# Altium footprint library 9W YT21392CGAS7 FL 9W81V95mA.PcbLib: 14 footprints
Each footprint in its own frame and in the unit in brackets; x right, y up, seen from the top. Pads: shape width x height; smd on the part's side, far side on the other; paste and mask are expansions set on the pad; w line width, h text height; cw(c..) or ccw(c..) is an arc to the next point about the centre after c.
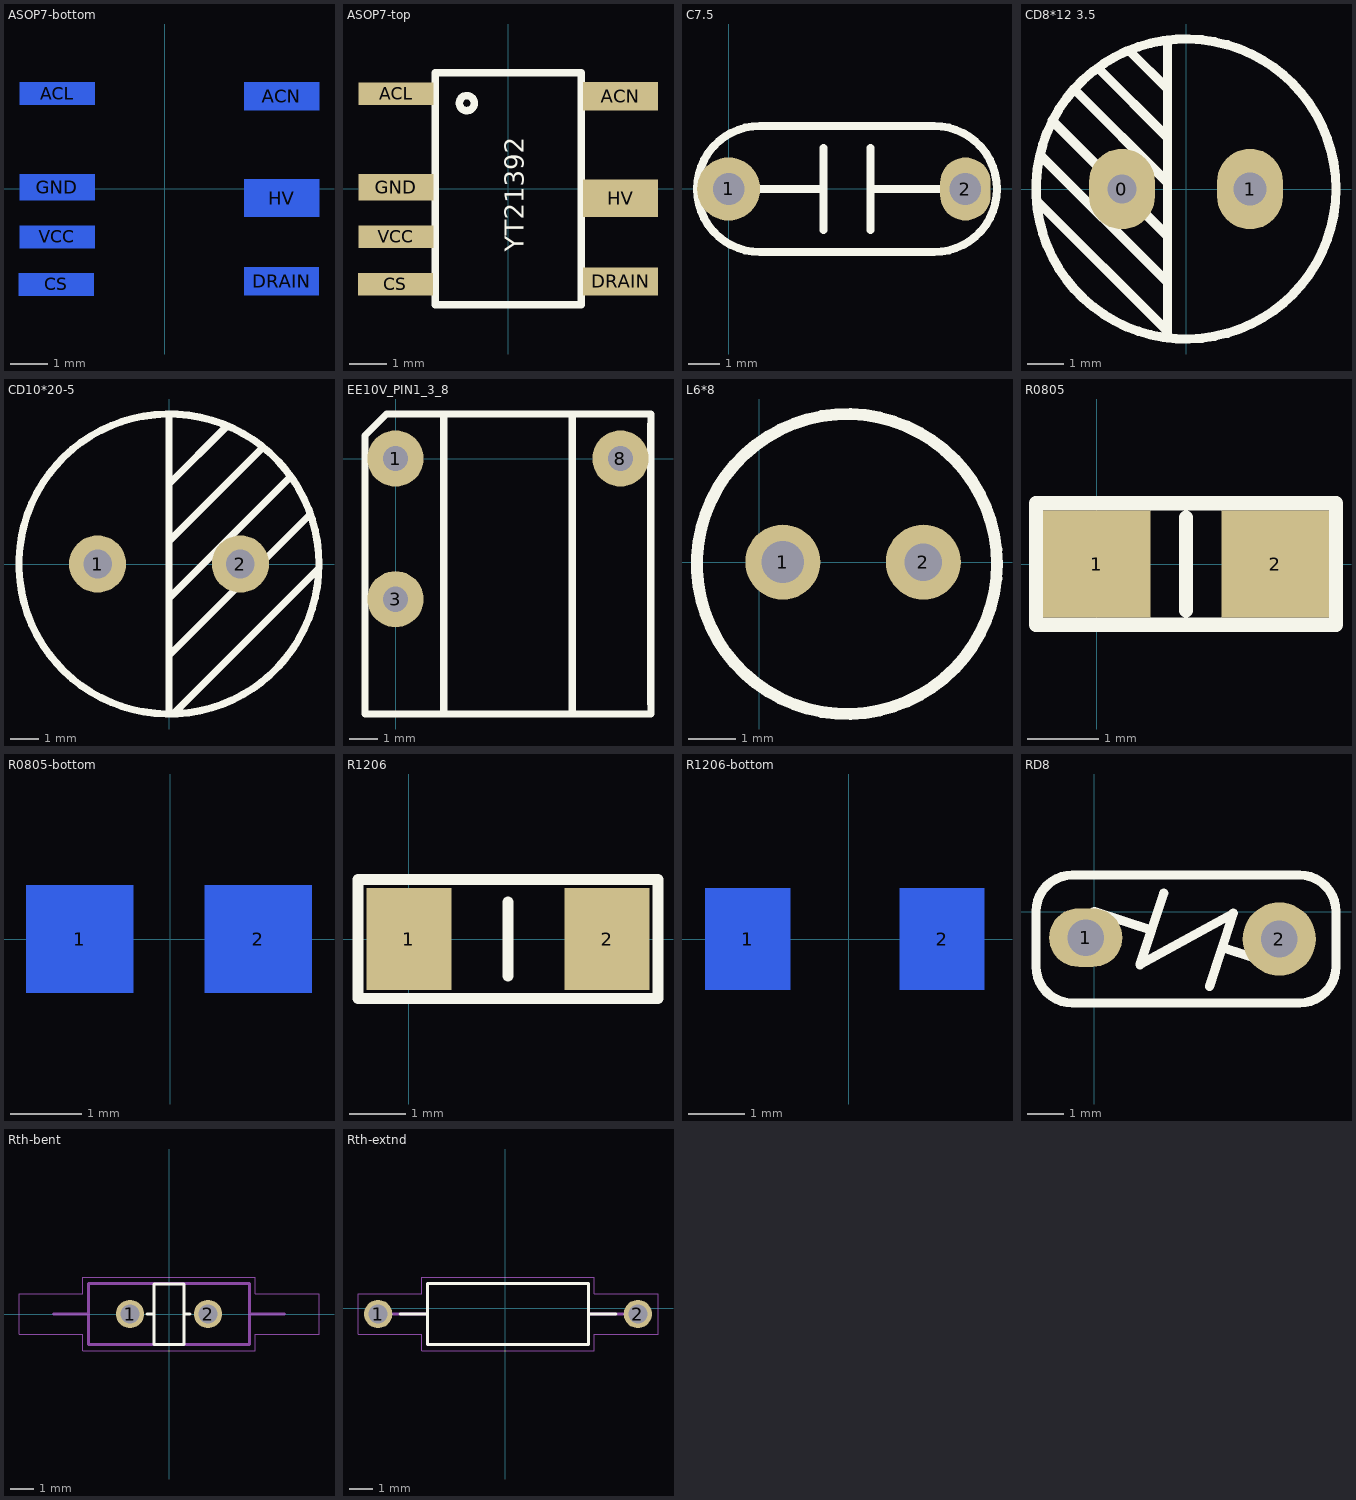
[diagram p0: the footprints below, top view; thin cyan lines are the x and y axes]

## ASOP7-bottom [mm]
pads (7):
  rect 2x0.6 smd far side: ACL(-2.873,2.545) CS(-2.893,-2.555) VCC(-2.873,-1.285)
  rect 2x0.75 smd far side: ACN(3.127,2.475) DRAIN(3.127,-2.475)
  rect 2x0.7 smd far side: GND(-2.873,0.04)
  rect 2x1 smd far side: HV(3.127,-0.25)
Bottom Overlay:
  circle w0.2: c-0.983,2.29 r0.2
  lines w0.2: -1.823,-3.1 2.077,-3.1 2.077,3.1 -1.823,3.1 -1.823,-3.1

## ASOP7-top [mm]
pads (7):
  rect 2x0.6 smd: ACL(-3,2.545) CS(-3.02,-2.555) VCC(-3,-1.285)
  rect 2x0.75 smd: ACN(3,2.475) DRAIN(3,-2.475)
  rect 2x0.7 smd: GND(-3,0.04)
  rect 2x1 smd: HV(3,-0.25)
Top Overlay:
  circle w0.2: c-1.11,2.29 r0.2
  lines w0.2: -1.95,-3.1 1.95,-3.1 1.95,3.1 -1.95,3.1 -1.95,-3.1
  text "YT21392" at 0.406,-1.676 h0.51

## C7.5 [mm]
pads (2):
  round 2 hole 1: 1(0,0)
  oval 1.6x2 hole 1: 2(7.5,0)
Top Overlay:
  lines w0.254: 0.95,0 2.95,0 ; 3,-1.3 3,1.3 ; 4.5,-1.3 4.5,1.3 ; 4.5,0 6.65,0 ; 1,-2 cw(c1,0) 1,2 6.5,2 cw(c6.5,0) 6.5,-2 1,-2

## CD8*12 3.5 [mm]
pads (2):
  oval 1.8x2.2 hole 0.8: 0(-1.75,0)
  oval 1.8x2.2 hole 0.9: 1(1.75,0)
Top Overlay:
  circle w0.254: c0,0 r4.1
  lines w0.254: -4.05,-0.35 -0.508,-3.892 ; -3.99,0.93 -0.508,-2.552 ; -3.66,1.87 -0.508,-1.282 ; -3.04,2.71 -0.508,0.178 ; -2.4,3.3 -0.508,1.408 ; -1.51,3.74 -0.508,2.738 ; -0.508,-4.064 -0.508,4.064

## CD10*20-5 [mm]
pads (2):
  round 2 hole 1: 1(-2.5,0) 2(2.5,0)
Top Overlay:
  circle w0.254: c0,0 r5.25
  lines w0.254: 0,-3.2 4.9,1.7 ; 0,-1.2 4.2,3 ; 0,0.8 3.2,4 ; 0,2.8 2,4.8 ; 0,5.2 0,-5.21 0.04,-5.21 ; 0.2,-5.2 5.2,-0.2

## EE10V_PIN1_3_8 [mm] "Transformer type Inductor"
pads (3):
  round 2 hole 0.9: 1(0,0) 3(0,-5) 8(8,0)
Top Overlay:
  lines w0.1: 9,-8.75 9,1.25
  lines w0.25: -1.08,-9.084 9.08,-9.084 9.08,1.584 0.444,1.584
  lines w0.254: -1.08,-9.084 -1.08,0.822 -0.318,1.584 0.444,1.584 ; 1.714,-9.084 1.714,1.584 ; 6.286,-9.084 6.286,1.584

## L6*8 [mm]
pads (2):
  round 1.6 hole 0.9: 1(0.5,0)
  round 1.6 hole 0.8: 2(3.5,0)
Top Overlay:
  circle w0.254: c1.87,-0.04 r3.2

## R0805 [mm]
pads (2):
  rect 1.5x1.5 smd: 1(0,0) 2(2.5,0)
Top Overlay:
  lines w0.2: 1.25,-0.65 1.25,0.65 ; -0.85,-0.85 -0.85,0.85 3.35,0.85 3.35,-0.85 -0.85,-0.85

## R0805-bottom [mm] "bottom pads for R0805"
pads (2):
  rect 1.5x1.5 smd far side: 1(-1.27,0) 2(1.23,0)
Bottom Overlay:
  lines w0.2: -0.02,-0.65 -0.02,0.65 ; -2.12,-0.85 2.08,-0.85 2.08,0.85 -2.12,0.85 -2.12,-0.85

## R1206 [mm]
pads (2):
  rect 1.5x1.8 smd: 1(0,0) 2(3.5,0)
Top Overlay:
  lines w0.2: 1.75,-0.65 1.75,0.65 ; -0.9,-1.05 -0.9,1.05 4.4,1.05 4.4,-1.05 -0.9,-1.05

## R1206-bottom [mm] "Bottom pads for R1206 size"
pads (2):
  rect 1.5x1.8 smd far side: 1(-1.778,0) 2(1.651,0)
Bottom Overlay:
  lines w0.2: 0,-0.984 0,1.016 ; -2.678,-1.05 2.622,-1.05 2.622,1.05 -2.678,1.05 -2.678,-1.05

## RD8 [mm]
pads (2):
  oval 2x1.6 hole 1: 1(-0.229,-0.711)
  round 2 hole 1: 2(5.06,-0.75)
Top Overlay:
  lines w0.254: -0.59,-2.5 cw(c-0.59,-1.5) -1.59,-1.5 -1.59,0 cw(c-0.59,0) -0.59,1 -0.203,1 5.61,1 cw(c5.61,0) 6.61,0 6.61,-1.5 cw(c5.61,-1.5) 5.61,-2.5 -0.59,-2.5 ; 0,0 1.55,-0.5 ; 1.9,0.5 1.25,-1.45 3.8,-0.05 3.15,-2.05 ; 3.55,-1 5.1,-1.5

## Rth-bent [mm]
pads (2):
  round 1.2 hole 0.8: 1(-1.651,0) 2(1.651,0)
Top Overlay:
  lines w0.127: -0.924,0 -0.635,0 ; 0.635,0 0.889,0 ; -0.635,-1.3 -0.635,0.225 -0.635,1.27 0.635,1.27 0.635,-1.3 -0.635,-1.3
Mechanical 13:
  lines w0.127: -4.9,0 -3.4,0 ; 4.9,0 3.4,0 ; -3.4,0 -3.4,1.3 3.4,1.3 3.4,0 ; -3.4,0 -3.4,-1.3 3.4,-1.3 3.4,0
Mechanical 15:
  lines w0.05: -6.35,-0.85 -3.65,-0.85 -3.65,-1.55 3.65,-1.55 3.65,-0.85 6.35,-0.85 6.35,0.85 3.65,0.85 3.65,1.55 -3.65,1.55 -3.65,0.85 -6.35,0.85 -6.35,-0.85
3D body "step_temp.STEP": height 2.6, standoff -25.53, extent -5.775,-1.3 5.775,1.3

## Rth-extnd [mm]
pads (2):
  round 1.2 hole 0.8: 1(-5.373,-0.254) 2(5.627,-0.254)
Top Overlay:
  lines w0.127: -4.453,-0.254 -3.273,-0.254 ; 4.707,-0.254 3.527,-0.254 ; -3.273,-0.254 -3.273,-1.554 3.527,-1.554 3.527,-0.254 ; -3.273,-0.254 -3.273,1.046 3.527,1.046 3.527,-0.254
Mechanical 13:
  lines w0.127: -4.773,-0.254 -3.273,-0.254 ; 5.027,-0.254 3.527,-0.254 ; -3.273,-0.254 -3.273,-1.554 3.527,-1.554 3.527,-0.254 ; -3.273,-0.254 -3.273,1.046 3.527,1.046 3.527,-0.254
Mechanical 15:
  lines w0.05: -6.223,-1.104 -6.223,0.596 -3.523,0.596 -3.523,1.296 3.777,1.296 3.777,0.596 6.477,0.596 6.477,-1.104 3.777,-1.104 3.777,-1.804 -3.523,-1.804 -3.523,-1.104 -6.223,-1.104
3D body "step_temp.STEP": height 2.6, standoff -25.53, extent -5.648,-1.554 5.902,1.046